# EAGLE library part BM70BLES1FC2 (library ICs)
Bluetooth® Low Energy (BLE) Module
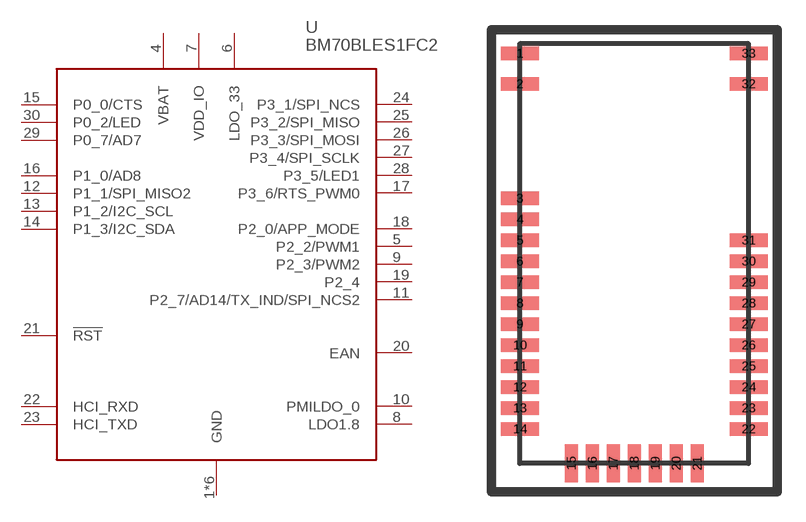
[diagram p82: symbol with the pads of BM70BLES1FC2; footprint BM70BLES1FC2]

Designator prefix U

## BM70BLES1FC2-0002AA (PRICE_PER: 4.69; VALUE: BM70BLES1FC2)  [BM70BLES1FC2]
1  GND
2  GND
3  GND
4  VBAT
5  P2_2/PWM1
6  LDO_33
7  VDD_IO
8  LDO1.8
9  P2_3/PWM2
10  PMILDO_0
11  P2_7/AD14/TX_IND/SPI_NCS2
12  P1_1/SPI_MISO2
13  P1_2/I2C_SCL
14  P1_3/I2C_SDA
15  P0_0/CTS
16  P1_0/AD8
17  P3_6/RTS_PWM0
18  P2_0/APP_MODE
19  P2_4
20  EAN
21  !RST
22  HCI_RXD
23  HCI_TXD
24  P3_1/SPI_NCS
25  P3_2/SPI_MISO
26  P3_3/SPI_MOSI
27  P3_4/SPI_SCLK
28  P3_5/LED1
29  P0_7/AD7
30  P0_2/LED
31  GND
32  GND
33  GND

## Footprint BM70BLES1FC2 (pad centres in mm)
smd 2 x 0.7: 1 -6,11.5; 2 -6,9.9; 3 -6,3.9; 4 -6,2.8; 5 -6,1.7; 6 -6,0.6; 7 -6,-0.5; 8 -6,-1.6; 9 -6,-2.7; 10 -6,-3.8; 11 -6,-4.9; 12 -6,-6; 13 -6,-7.1; 14 -6,-8.2; 22 6,-8.2; 23 6,-7.1; 24 6,-6; 25 6,-4.9; 26 6,-3.8; 27 6,-2.7; 28 6,-1.6; 29 6,-0.5; 30 6,0.6; 31 6,1.7; 32 6,9.9; 33 6,11.5
smd 0.7 x 2: 15 -3.3,-10; 16 -2.2,-10; 17 -1.1,-10; 18 0,-10; 19 1.1,-10; 20 2.2,-10; 21 3.3,-10